# Altium footprint library PCB - LEADLESS - DFN - NEXPERIA DFN2020MD-6 SOT1220 P-CH.PcbLib: 1 footprints
Each footprint in its own frame and in the unit in brackets; x right, y up, seen from the top. Pads: shape width x height; smd on the part's side, far side on the other; paste and mask are expansions set on the pad; w line width, h text height; cw(c..) or ccw(c..) is an arc to the next point about the centre after c.
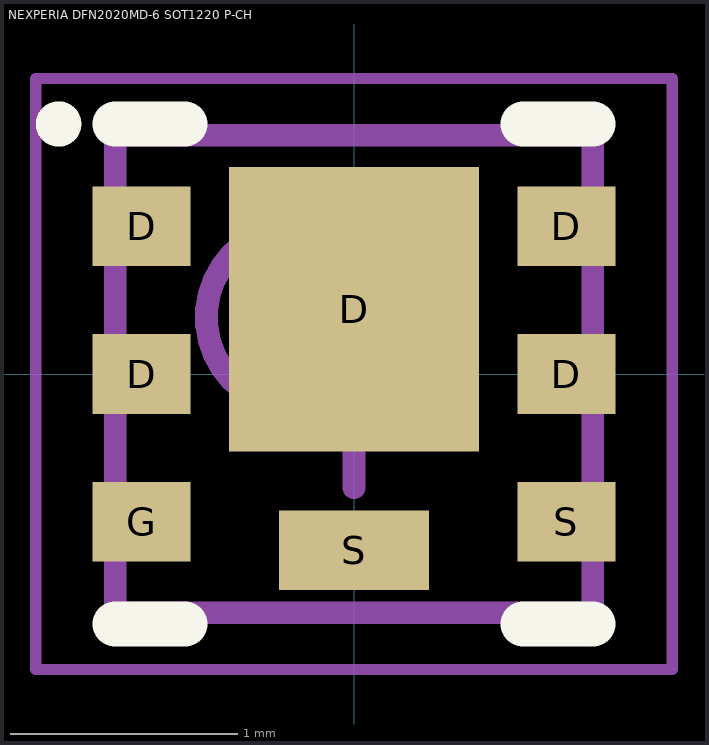
[diagram p0: the footprint, top view; thin cyan lines are the x and y axes]

## NEXPERIA DFN2020MD-6 SOT1220 P-CH [mm] "DFN, 8-Leads, Body 2.00x2.00mm, Pitch 0.65mm, Thermal Pad 2.40x1.49mm"
height 0.65
pads (8):
  rect 0.43x0.35 smd paste-0.05: D(-0.935,0) D(-0.935,0.65) D(0.935,0) D(0.935,0.65) G(-0.935,-0.65) S(0.935,-0.65)
  rect 1.1x1.25 smd paste-0.1: D(0,0.285)
  rect 0.66x0.35 smd paste-0.05: S(0,-0.775)
Top Overlay:
  circle w0.1: c-1.3,1.1 r0.05
  lines w0.2: -1.05,-1.1 -0.745,-1.1 ; -1.05,1.1 -0.745,1.1 ; 0.745,-1.1 1.05,-1.1 ; 0.745,1.1 1.05,1.1
Mechanical 13:
  circle w0.1: c-0.25,0.25 r0.4
  lines w0.1: -1.05,-1.05 1.05,-1.05 1.05,1.05 -1.05,1.05 -1.05,-1.05
Mechanical 15:
  lines w0.05: -1.4,-1.3 1.4,-1.3 1.4,1.3 -1.4,1.3 -1.4,-1.3
  lines w0.1: -0.5,0 0.5,0 ; 0,-0.5 0,0.5
3D body "NEXPERIA DFN2020MD-6 SOT1220 N-CH.step": height 0.65, standoff 0, extent -1.051,-1.05 1.051,1.05